# Altium footprint library NIXIEClock_151223.PcbLib: 34 footprints (part 1 of 3)
Each footprint in its own frame and in the unit in brackets; x right, y up, seen from the top. Pads: shape width x height; smd on the part's side, far side on the other; paste and mask are expansions set on the pad; w line width, h text height; cw(c..) or ccw(c..) is an arc to the next point about the centre after c.
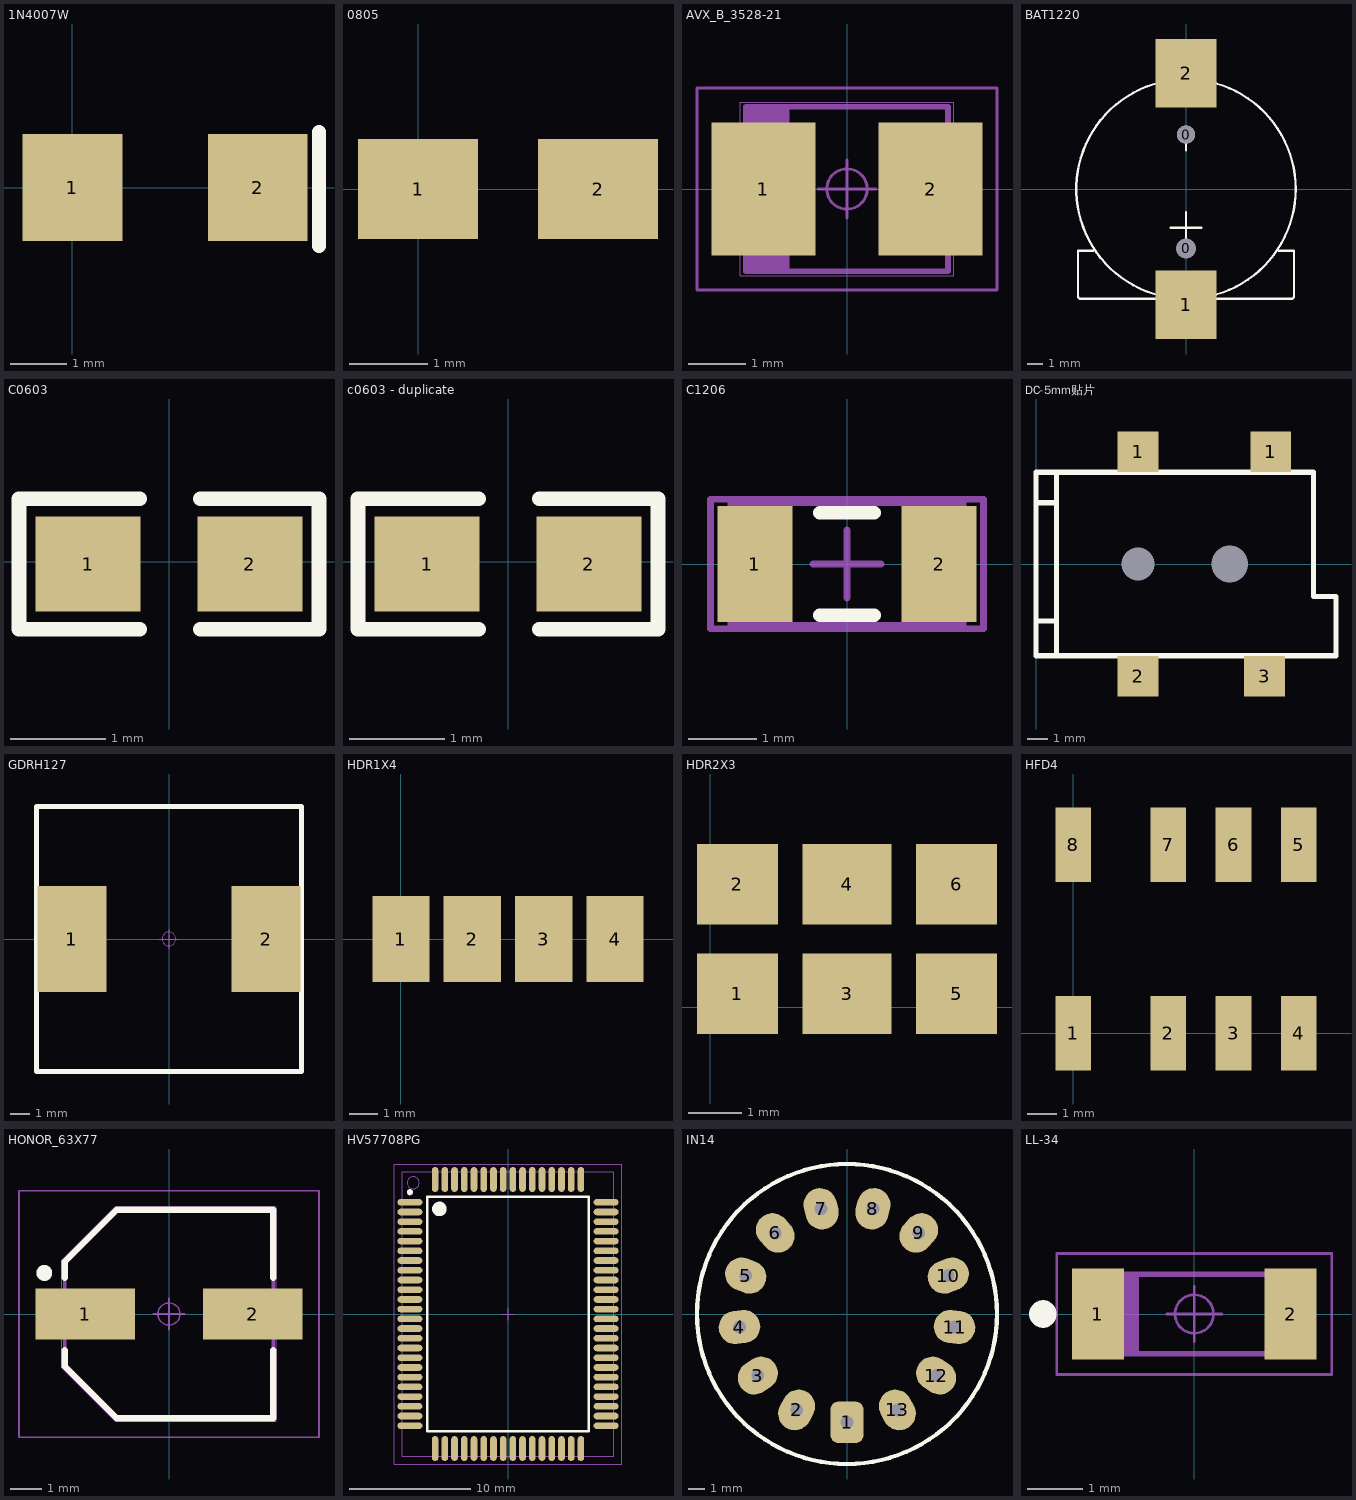
[diagram p0: the footprints below, top view; thin cyan lines are the x and y axes]

## 1N4007W [mil]
pads (2):
  rect 70x75 smd: 1(0,0) 2(130,0)
Top Overlay:
  lines w10: 173,-41 173,39

## 0805 [mil] "1/8W"
pads (2):
  rect 60x50 smd: 1(0,0) 2(90,0)

## AVX_B_3528-21 [mm]
pads (2):
  rect 1.8x2.3 smd: 1(-1.45,0) 2(1.45,0)
Mechanical 1:
  lines w0.1: -1.65,-1.425 -1.65,1.425 ; -1.55,-1.425 -1.55,1.425 ; -1.45,-1.425 -1.45,1.425 ; -1.35,-1.425 -1.35,1.425 ; -1.25,-1.425 -1.25,1.425 ; -1.15,-1.425 -1.15,1.425 ; -1.05,-1.425 -1.05,1.425 ; -1.75,-1.425 -1.75,1.425 1.75,1.425 1.75,-1.425 -1.75,-1.425
  text "C1" at -0.087,-0.45 h0.75
Mechanical 16:
  circle w0.05: c0,0 r0.35
  lines w0.001: -1.85,-1.5 -1.85,1.5 1.85,1.5 1.85,-1.5 -1.85,-1.5
  lines w0.05: -0.5,0 0.5,0 ; 0,-0.5 0,0.5 ; -2.6,-1.75 -2.6,1.75 2.6,1.75 2.6,-1.75 -2.6,-1.75

## BAT1220 [mm]
pads (4):
  round 1.2 hole 1.3 unplated: 0(0,-3.886)
  round 1.2 hole 1.2 unplated: 0(0,3.607)
  rect 4x4.5 smd: 1(0,-7.595) 2(0,7.645)
Top Overlay:
  circle w0.152: c0,0.025 r7.22
  lines w0.152: -6.096,-4.039 -7.112,-4.039 -7.112,-7.087 -7.004,-7.195 0,-7.195 7.004,-7.195 7.112,-7.087 7.112,-4.039 6.096,-4.039 ; -1.016,-2.515 1.016,-2.515 ; 0,-3.531 0,-1.499 ; 0,2.565 0,4.089

## C0603 [mm] "Chip Resistor; Body 1.6 x 0.8 mm (LxW typ)"
height 0.6
pads (2):
  rect 1.1x1 smd: 1(-0.85,-0.025) 2(0.85,-0.025)
Top Overlay:
  lines w0.152: -0.305,-0.711 -1.575,-0.711 -1.575,0.66 -0.305,0.66 ; 0.33,-0.711 1.575,-0.711 1.575,0.66 0.33,0.66

## c0603 - duplicate [mm]
pads (2):
  rect 1.1x1 smd: 1(-0.85,-0.025) 2(0.85,-0.025)
Top Overlay:
  lines w0.152: -0.305,-0.711 -1.575,-0.711 -1.575,0.66 -0.305,0.66 ; 0.33,-0.711 1.575,-0.711 1.575,0.66 0.33,0.66

## C1206 [mm] "Chip Capacitor, Body 3.2x1.6mm, IPC High Density"
height 1.3
pads (2):
  rect 1.1x1.7 smd: 1(-1.35,0) 2(1.35,0)
Top Overlay:
  lines w0.2: -0.4,-0.75 0.4,-0.75 ; -0.4,0.75 0.4,0.75
Mechanical 13:
  lines w0.1: -1.7,-0.9 -1.7,0.9 1.7,0.9 1.7,-0.9 -1.7,-0.9
Mechanical 15:
  lines w0.1: -0.5,0 0.5,0 ; 0,-0.5 0,0.5 ; -2,-0.95 -2,0.95 2,0.95 2,-0.95 -2,-0.95
3D body: height 1.3, standoff 0, extent -1.7,-0.9 1.7,0.9

## DC-5mm贴片 [mm]
pads (6):
  round 0 hole 1.6 unplated: 0(5,0)
  round 0 hole 1.8 unplated: 0(9.5,0)
  rect 2x2 smd: 1(5,5.5) 1(11.5,5.5) 2(5,-5.5) 3(11.2,-5.5)
Top Overlay:
  lines w0.254: 0,-2.8 1,-2.8 ; 0,3 1,3 ; 1,-4.5 1,4.5 ; 0,-4.5 14.7,-4.5 14.7,-1.6 13.6,-1.6 13.6,4.5 0,4.5 0,-4.5

## GDRH127 [mm]
pads (2):
  rect 3.5x5.4 smd: 1(-4.95,0) 2(4.95,0)
Top Overlay:
  lines w0.254: -6.75,-6.75 -6.75,6.75 6.75,6.75 6.75,-6.75 -6.75,-6.75
Mechanical 16:
  circle w0.05: c0,0 r0.35
  lines w0.05: -0.5,0 0.5,0 ; 0,-0.5 0,0.5

## HDR1X4 [mil] "Connector; Header; 4 Position"
pads (4):
  rect 80x120 smd: 1(0,0) 2(100,0) 3(200,0) 4(300,0)

## HDR2X3 [mil] "Connector; Header; 3x2 Position"
pads (6):
  rect 59.06x59.06 smd: 1(20,10) 2(20,90) 5(180,10) 6(180,90)
  rect 65x59.06 smd: 3(100,10) 4(100,90)

## HFD4 [mm]
height 1.4
pads (8):
  rect 1.2x2.5 smd: 1(0,0) 2(3.2,0) 3(5.4,0) 4(7.6,0) 5(7.6,6.35) 6(5.4,6.35) 7(3.2,6.35) 8(0,6.35)

## HONOR_63X77 [mm]
pads (2):
  rect 3.15x1.6 smd: 1(-2.65,0) 2(2.65,0)
Top Overlay:
  circle w0.25: c-3.95,1.3 r0.125
  lines w0.2: -3.3,-1.15 -3.3,-1.65 -1.65,-3.3 3.3,-3.3 3.3,-1.15 ; -3.3,1.15 -3.3,1.65 -1.65,3.3 3.3,3.3 3.3,1.15
Mechanical 1:
  lines w0.1: -3.3,-1.65 -3.3,1.65 -1.65,3.3 3.3,3.3 3.3,-3.3 -1.65,-3.3 -3.3,-1.65
  text "C1" at -0.537,-0.45 h0.76
Mechanical 16:
  circle w0.05: c0,0 r0.35
  lines w0.001: -3.4,-1.7 -3.4,1.7 -1.7,3.4 3.4,3.4 3.4,-3.4 -1.7,-3.4 -3.4,-1.7
  lines w0.05: -0.5,0 0.5,0 ; 0,-0.5 0,0.5 ; -4.75,-3.9 -4.75,3.9 4.75,3.9 4.75,-3.9 -4.75,-3.9

## HV57708PG [mm] "QFP, 80-Leads, Body 17.40x23.40mm, Pitch 0.80mm, IPC Medium Density"
height 2.45
pads (80):
  oval 2.05x0.55 smd: 1(-8.075,9.2) 2(-8.075,8.4) 3(-8.075,7.6) 4(-8.075,6.8) 5(-8.075,6) 6(-8.075,5.2) 7(-8.075,4.4) 8(-8.075,3.6) 9(-8.075,2.8) 10(-8.075,2) 11(-8.075,1.2) 12(-8.075,0.4) 13(-8.075,-0.4) 14(-8.075,-1.2) 15(-8.075,-2) 16(-8.075,-2.8) 17(-8.075,-3.6) 18(-8.075,-4.4) 19(-8.075,-5.2) 20(-8.075,-6) 21(-8.075,-6.8) 22(-8.075,-7.6) 23(-8.075,-8.4) 24(-8.075,-9.2) 41(8.075,-9.2) 42(8.075,-8.4) 43(8.075,-7.6) 44(8.075,-6.8) 45(8.075,-6) 46(8.075,-5.2) 47(8.075,-4.4) 48(8.075,-3.6) 49(8.075,-2.8) 50(8.075,-2) 51(8.075,-1.2) 52(8.075,-0.4) 53(8.075,0.4) 54(8.075,1.2) 55(8.075,2) 56(8.075,2.8) 57(8.075,3.6) 58(8.075,4.4) 59(8.075,5.2) 60(8.075,6) 61(8.075,6.8) 62(8.075,7.6) 63(8.075,8.4) 64(8.075,9.2)
  oval 0.55x2.05 smd: 25(-6,-11.075) 26(-5.2,-11.075) 27(-4.4,-11.075) 28(-3.6,-11.075) 29(-2.8,-11.075) 30(-2,-11.075) 31(-1.2,-11.075) 32(-0.4,-11.075) 33(0.4,-11.075) 34(1.2,-11.075) 35(2,-11.075) 36(2.8,-11.075) 37(3.6,-11.075) 38(4.4,-11.075) 39(5.2,-11.075) 40(6,-11.075) 65(6,11.075) 66(5.2,11.075) 67(4.4,11.075) 68(3.6,11.075) 69(2.8,11.075) 70(2,11.075) 71(1.2,11.075) 72(0.4,11.075) 73(-0.4,11.075) 74(-1.2,11.075) 75(-2,11.075) 76(-2.8,11.075) 77(-3.6,11.075) 78(-4.4,11.075) 79(-5.2,11.075) 80(-6,11.075)
Top Overlay:
  circle w0.25: c-8.075,10.025 r0.125
  circle w0.6: c-5.65,8.65 r0.3
  lines w0.2: -6.65,-9.65 -6.65,9.65 6.65,9.65 6.65,-9.65 -6.65,-9.65
Mechanical 13:
  circle w0.1: c-7.8,10.8 r0.5
  lines w0.1: -8.7,-11.7 -8.7,11.7 8.7,11.7 8.7,-11.7 -8.7,-11.7
Mechanical 15:
  lines w0.05: -9.35,-12.35 -9.35,12.35 9.35,12.35 9.35,-12.35 -9.35,-12.35
  lines w0.1: -0.5,0 0.5,0 ; 0,-0.5 0,0.5

## IN14 [mm]
pads (13):
  rrect50% 2x2.5 hole 0.762: 1(0,-6.5)
  oval 2x2.5 hole 0.762 rot 152.31: 2(-3.021,-5.755)
  oval 2x2.5 hole 0.762 rot 124.62: 3(-5.349,-3.692)
  oval 2x2.5 hole 0.762 rot 96.92: 4(-6.453,-0.784)
  oval 2x2.5 hole 0.762 rot 69.23: 5(-6.078,2.305)
  oval 2x2.5 hole 0.762 rot 41.54: 6(-4.31,4.865)
  oval 2x2.5 hole 0.762 rot 13.85: 7(-1.556,6.311)
  oval 2x2.5 hole 0.762 rot 166.15: 8(1.555,6.311)
  oval 2x2.5 hole 0.762 rot 138.46: 9(4.31,4.866)
  oval 2x2.5 hole 0.762 rot 110.77: 10(6.077,2.305)
  oval 2x2.5 hole 0.762 rot 83.08: 11(6.453,-0.784)
  oval 2x2.5 hole 0.762 rot 55.38: 12(5.349,-3.692)
  oval 2x2.5 hole 0.762 rot 27.69: 13(3.021,-5.755)
Top Overlay:
  circle w0.254: c0,0 r9

## LL-34 [mm]
pads (2):
  rect 0.95x1.65 smd: 1(-1.75,0) 2(1.75,0)
Top Overlay:
  circle w0.25: c-2.75,0 r0.125
Mechanical 15:
  lines w0.1: -1.65,-0.725 -1.65,0.725 ; -1.55,-0.725 -1.55,0.725 ; -1.45,-0.725 -1.45,0.725 ; -1.35,-0.725 -1.35,0.725 ; -1.25,-0.725 -1.25,0.725 ; -1.15,-0.725 -1.15,0.725 ; -1.05,-0.725 -1.05,0.725 ; -1.75,-0.725 -1.75,0.725 1.75,0.725 1.75,-0.725 -1.75,-0.725
Mechanical 16:
  circle w0.05: c0,0 r0.35
  lines w0.001: -1.8,-0.75 -1.8,0.75 1.8,0.75 1.8,-0.75 -1.8,-0.75
  lines w0.05: -0.5,0 0.5,0 ; 0,-0.5 0,0.5 ; -2.5,-1.1 -2.5,1.1 2.5,1.1 2.5,-1.1 -2.5,-1.1